# Altium footprint library RAK4630.PcbLib: 1 footprints
Each footprint in its own frame and in the unit in brackets; x right, y up, seen from the top. Pads: shape width x height; smd on the part's side, far side on the other; paste and mask are expansions set on the pad; w line width, h text height; cw(c..) or ccw(c..) is an arc to the next point about the centre after c.
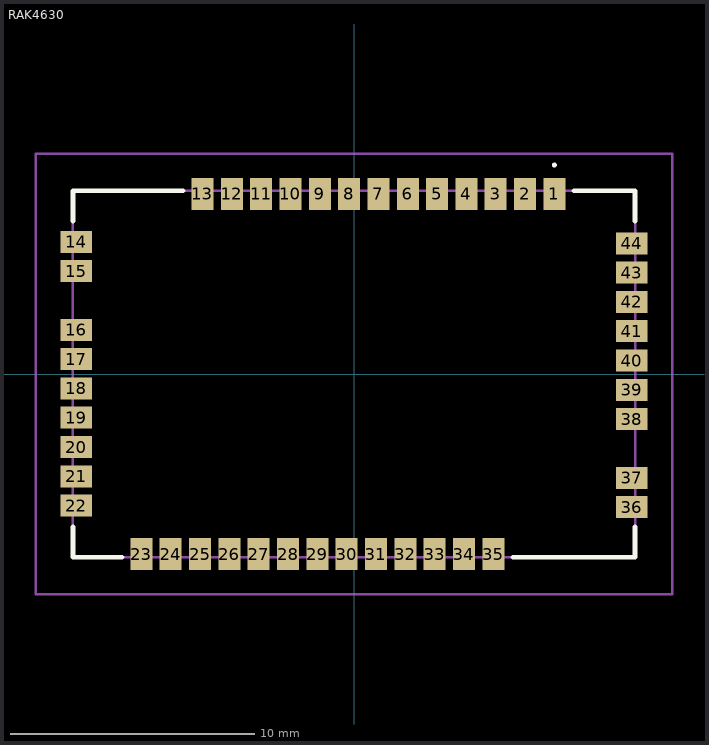
[diagram p0: the footprint, top view; thin cyan lines are the x and y axes]

## RAK4630 [mm]
pads (44):
  rect 0.9x1.3 smd: 1(8.2,7.37) 2(7,7.37) 3(5.8,7.37) 4(4.6,7.37) 5(3.4,7.37) 6(2.2,7.37) 7(1,7.37) 8(-0.2,7.37) 9(-1.4,7.37) 10(-2.6,7.37) 11(-3.8,7.37) 12(-5,7.37) 13(-6.2,7.37) 23(-8.7,-7.37) 24(-7.5,-7.37) 25(-6.3,-7.37) 26(-5.1,-7.37) 27(-3.9,-7.37) 28(-2.7,-7.37) 29(-1.5,-7.37) 30(-0.3,-7.37) 31(0.9,-7.37) 32(2.1,-7.37) 33(3.3,-7.37) 34(4.5,-7.37) 35(5.7,-7.37)
  rect 1.3x0.9 smd: 14(-11.37,5.41) 15(-11.37,4.21) 16(-11.37,1.81) 17(-11.37,0.61) 18(-11.37,-0.59) 19(-11.37,-1.79) 20(-11.37,-2.99) 21(-11.37,-4.19) 22(-11.37,-5.39) 36(11.37,-5.45) 37(11.37,-4.25) 38(11.37,-1.85) 39(11.37,-0.65) 40(11.37,0.55) 41(11.37,1.75) 42(11.37,2.95) 43(11.37,4.15) 44(11.37,5.35)
Top Overlay:
  lines w0.1: 8.2,8.5 8.2,8.5 ; 8.2,8.5 ccw(c8.2,8.55) 8.2,8.6 ; 8.2,8.5 cw(c8.2,8.55) 8.2,8.6 ; 8.2,8.6 8.2,8.6
  lines w0.2: -11.5,-6.25 -11.5,-7.5 -9.5,-7.5 ; -11.5,6.25 -11.5,7.5 -7,7.5 ; 6.5,-7.5 11.5,-7.5 11.5,-6.25 ; 9,7.5 11.5,7.5 11.5,6.25
Mechanical 15:
  lines w0.1: -11.5,-7.5 11.5,-7.5 11.5,7.5 -11.5,7.5 -11.5,-7.5
Mechanical 20:
  lines w0.1: -13.02,-9.02 13.02,-9.02 13.02,9.02 -13.02,9.02 -13.02,-9.02